# Altium schematic symbol library nixie.SchLib: 18 symbols
Pins are listed as number, name and electrical type; pins without a type are passive.

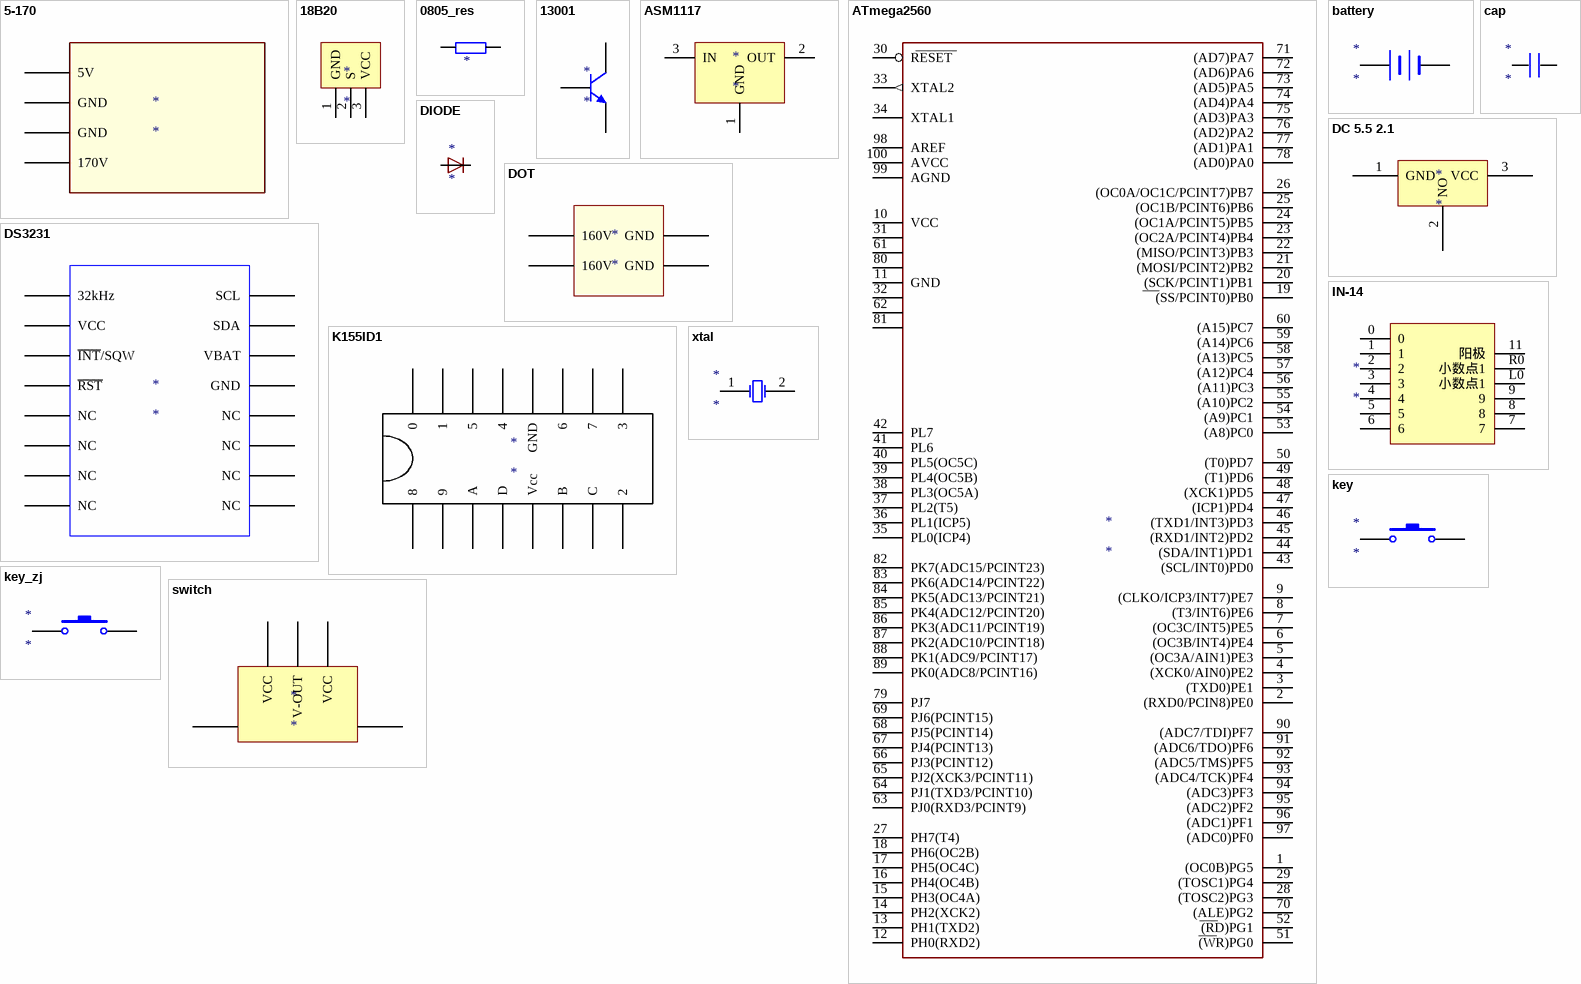
[diagram p0: symbols 5-170 to xtal]

## 5-170
designator *
footprint 5-170V
pins: 1 5V, 2 GND, 3 GND, 4 170V

## 18B20
designator *
footprint 18B20
pins: 1 GND, 2 S, 3 VCC

## 0805_res
designator 0805_res
footprint 0805_res
pins: 1, 2

## 13001
designator *
footprint 13001
pins: 1 E, 2 C, 3 B

## ASM1117
designator *
footprint AMS1117
pins: 1 GND, 2 OUT, 3 IN

## ATmega2560
designator *
footprint ATmega2560
pins: 1 (OC0B)PG5, 2 (RXD0/PCIN8)PE0, 3 (TXD0)PE1, 4 (XCK0/AIN0)PE2, 5 (OC3A/AIN1)PE3, 6 (OC3B/INT4)PE4, 7 (OC3C/INT5)PE5, 8 (T3/INT6)PE6, 9 (CLKO/ICP3/INT7)PE7, 10 VCC (power), 11 GND (power), 12 PH0(RXD2), 13 PH1(TXD2), 14 PH2(XCK2), 15 PH3(OC4A), 16 PH4(OC4B), 17 PH5(OC4C), 18 PH6(OC2B), 19 (SS/PCINT0)PB0, 20 (SCK/PCINT1)PB1, 21 (MOSI/PCINT2)PB2, 22 (MISO/PCINT3)PB3, 23 (OC2A/PCINT4)PB4, 24 (OC1A/PCINT5)PB5, 25 (OC1B/PCINT6)PB6, 26 (OC0A/OC1C/PCINT7)PB7, 27 PH7(T4), 28 (TOSC2)PG3, 29 (TOSC1)PG4, 30 RESET, 31 VCC1 (power), 32 GND1 (power), 33 XTAL2 (out), 34 XTAL1, 35 PL0(ICP4), 36 PL1(ICP5), 37 PL2(T5), 38 PL3(OC5A), 39 PL4(OC5B), 40 PL5(OC5C), 41 PL6, 42 PL7, 43 (SCL/INT0)PD0, 44 (SDA/INT1)PD1, 45 (RXD1/INT2)PD2, 46 (TXD1/INT3)PD3, 47 (ICP1)PD4, 48 (XCK1)PD5, 49 (T1)PD6, 50 (T0)PD7, 51 (WR)PG0, 52 (RD)PG1, 53 (A8)PC0, 54 (A9)PC1, 55 (A10)PC2, 56 (A11)PC3, 57 (A12)PC4, 58 (A13)PC5, 59 (A14)PC6, 60 (A15)PC7, 61 VCC2 (power), 62 GND2 (power), 63 PJ0(RXD3/PCINT9), 64 PJ1(TXD3/PCINT10), 65 PJ2(XCK3/PCINT11), 66 PJ3(PCINT12), 67 PJ4(PCINT13), 68 PJ5(PCINT14), 69 PJ6(PCINT15), 70 (ALE)PG2, 71 (AD7)PA7, 72 (AD6)PA6, 73 (AD5)PA5, 74 (AD4)PA4, 75 (AD3)PA3, 76 (AD2)PA2, 77 (AD1)PA1, 78 (AD0)PA0, 79 PJ7, 80 VCC3 (power), 81 GND3 (power), 82 PK7(ADC15/PCINT23), 83 PK6(ADC14/PCINT22), 84 PK5(ADC13/PCINT21), 85 PK4(ADC12/PCINT20), 86 PK3(ADC11/PCINT19), 87 PK2(ADC10/PCINT18), 88 PK1(ADC9/PCINT17), 89 PK0(ADC8/PCINT16), 90 (ADC7/TDI)PF7, 91 (ADC6/TDO)PF6, 92 (ADC5/TMS)PF5, 93 (ADC4/TCK)PF4, 94 (ADC3)PF3, 95 (ADC2)PF2, 96 (ADC1)PF1, 97 (ADC0)PF0, 98 AREF, 99 AGND (power), 100 AVCC (power)

## battery
designator *
footprint battery
pins: 1 +, 2 -

## cap
designator *
footprint 0805_cap
footprint 1210_cap
pins: 1, 2

## DC 5.5 2.1
designator *
footprint DC 5.5 2.1
pins: 1 GND, 2 NO, 3 VCC

## DIODE
designator *
footprint DIODE
pins: A, C

## DOT
designator *
footprint dot
pins: 1 160V, 2 GND, 3 160V, 4 GND

## DS3231
designator *
footprint DS3231
pins: 1 32kHz, 2 VCC, 3 ~{INT}/SQW, 4 ~{RST}, 5 NC, 6 NC, 7 NC, 8 NC, 9 NC, 10 NC, 11 NC, 12 NC, 13 GND, 14 VBAT, 15 SDA, 16 SCL

## IN-14
designator *
footprint IN-14
pins: 0, 1, 2, 3, 4, 5, 6, 7, 8, 9, 11 阳极, L0 小数点1, R0 小数点1

## K155ID1
designator *
footprint K155ID1
pins: 1 8, 2 9, 3 A, 4 D, 5 Vcc, 6 B, 7 C, 8 2, 9 3, 10 7, 11 6, 12 GND, 13 4, 14 5, 15 1, 16 0

## key
designator *
footprint key
pins: 1, 2

## key_zj
designator *
footprint key_zj
pins: 1, 2

## switch
designator *
footprint switch
pins: 1 VCC, 2 V-OUT, 3 VCC, 4, 5

## xtal
designator *
footprint XTAL
pins: 1 OSC1, 2 OSC2